# EAGLE library part DECODER_4:1_DUAL_74CBTLV3253 (library myFab)
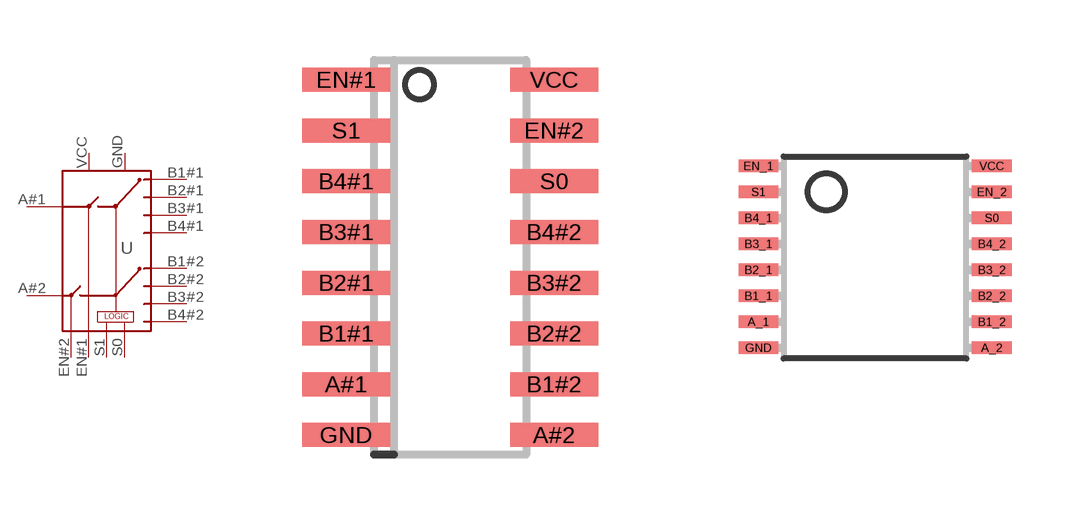
[diagram p17: symbol with the pads of SOIC16N_74CBTLV3253; footprints SOIC16N_74CBTLV3253, TSSOP16_74CBTLV3253]

Designator prefix -

## DECODER_4:1_DUAL_74CBTLV3253SOIC16  [SOIC16N_74CBTLV3253]
A#1  A#1
A#2  A#2
B1#1  B1#1
B1#2  B1#2
B2#1  B2#1
B2#2  B2#2
B3#1  B3_1
B3#2  B3#2
B4#1  B4#1
B4#2  B4#2
EN#1  EN#1
EN#2  EN#2
GND  GND
S0  S0
S1  S1
VCC  VCC

## DECODER_4:1_DUAL_74CBTLV3253TSSOP16  [TSSOP16_74CBTLV3253]
A_1  A#1
A_2  A#2
B1_1  B1#1
B1_2  B1#2
B2_1  B2#1
B2_2  B2#2
B3_1  B3_1
B3_2  B3#2
B4_1  B4#1
B4_2  B4#2
EN_1  EN#1
EN_2  EN#2
GND  GND
S0  S0
S1  S1
VCC  VCC

## Footprint SOIC16N_74CBTLV3253 (pad centres in mm)
SMALL OUTLINE INTEGRATED CIRCUIT
smd 2.2 x 0.6: A#1 -2.6,-3.175; A#2 2.6,-4.445; B1#1 -2.6,-1.905; B1#2 2.6,-3.175; B2#1 -2.6,-0.635; B2#2 2.6,-1.905; B3#1 -2.6,0.635; B3#2 2.6,-0.635; B4#1 -2.6,1.905; B4#2 2.6,0.635; EN#1 -2.6,4.445; EN#2 2.6,3.175; GND -2.6,-4.445; S0 2.6,1.905; S1 -2.6,3.175; VCC 2.6,4.445

## Footprint TSSOP16_74CBTLV3253 (pad centres in mm)
smd 0.991 x 0.305: A_1 -2.918,-0.975; A_2 2.918,-1.625; B1_1 -2.918,-0.325; B1_2 2.918,-0.975; B2_1 -2.918,0.325; B2_2 2.918,-0.325; B3_1 -2.918,0.975; B3_2 2.918,0.325; B4_1 -2.918,1.625; B4_2 2.918,0.975; EN_1 -2.918,2.925; EN_2 2.918,2.275; GND -2.918,-1.625; S0 2.918,1.625; S1 -2.918,2.275; VCC 2.918,2.925